# Altium footprint library integrated.PcbLib: 18 footprints (part 2 of 2)
Each footprint in its own frame and in the unit in brackets; x right, y up, seen from the top. Pads: shape width x height; smd on the part's side, far side on the other; paste and mask are expansions set on the pad; w line width, h text height; cw(c..) or ccw(c..) is an arc to the next point about the centre after c.
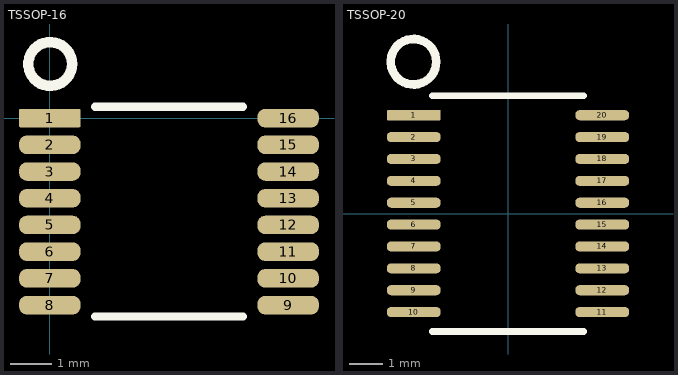
[diagram p1: the footprints below, top view; thin cyan lines are the x and y axes]

## TSSOP-16 [mm]
pads (16):
  rrect15% 1.5x0.45 smd paste-0.05: 1(0,0)
  rrect85% 1.5x0.45 smd paste-0.05: 2(0,-0.65) 3(0,-1.3) 4(0,-1.95) 5(0,-2.6) 6(0,-3.25) 7(0,-3.9) 8(0,-4.55) 9(5.8,-4.55) 10(5.8,-3.9) 11(5.8,-3.25) 12(5.8,-2.6) 13(5.8,-1.95) 14(5.8,-1.3) 15(5.8,-0.65) 16(5.8,0)
Top Overlay:
  circle w0.254: c0.011,1.316 r0.533
  lines w0.2: 1.1,-4.825 4.7,-4.825 ; 1.1,0.275 4.7,0.275
3D body: height 1.27, standoff 0, extent 0.8,-4.825 5,0.275
3D body: height 1.27, standoff 0, extent 2,-2.275 2,-2.275

## TSSOP-20 [mm]
pads (20):
  rrect15% 1.6x0.3 smd paste-0.05 mask+0.051: 1(-2.8,2.925)
  rrect85% 1.6x0.3 smd paste-0.05 mask+0.051: 2(-2.8,2.275) 3(-2.8,1.625) 4(-2.8,0.975) 5(-2.8,0.325) 6(-2.8,-0.325) 7(-2.8,-0.975) 8(-2.8,-1.625) 9(-2.8,-2.275) 10(-2.8,-2.925) 11(2.8,-2.925) 12(2.8,-2.275) 13(2.8,-1.625) 14(2.8,-0.975) 15(2.8,-0.325) 16(2.8,0.325) 17(2.8,0.975) 18(2.8,1.625) 19(2.8,2.275) 20(2.8,2.925)
Top Overlay:
  circle w0.254: c-2.807,4.514 r0.676
  lines w0.2: -2.25,-3.5 2.25,-3.5 ; -2.25,3.5 2.25,3.5
3D body: height 1.27, standoff 0, extent -2.25,-3.3 2.25,3.3